# Altium schematic symbol library SamacSys.SchLib: 10 symbols
Pins are listed as number, name and electrical type; pins without a type are passive.

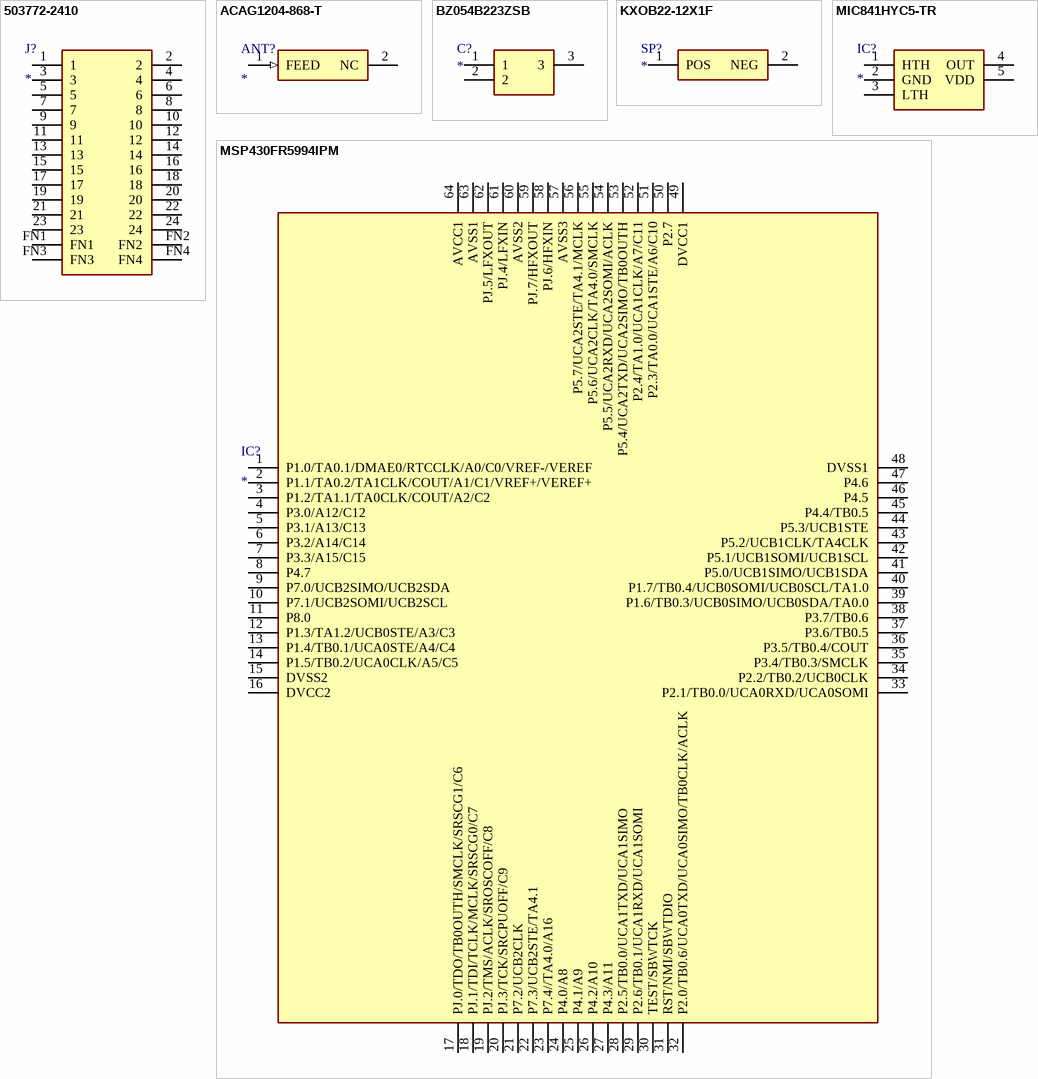
[diagram p0: symbols 503772-2410 to MSP430FR5994IPM]

## 503772-2410
designator J?
Connector; Manufacturer_Name: Molex; Manufacturer_Part_Number: 503772-2410; Datasheet Link: https://componentsearchengine.com/Datasheets/1/503772-2410.pdf; Height: 0.76mm; Mouser Part Number: 538-503772-2410; Mouser Price/Stock: https://www.mouser.com/Search/Refine.aspx?Keyword=538-503772-2410
footprint 5037722410
pins: 1, 2, 3, 4, 5, 6, 7, 8, 9, 10, 11, 12, 13, 14, 15, 16, 17, 18, 19, 20, 21, 22, 23, 24, FN1, FN2, FN3, FN4

## ACAG1204-868-T
designator ANT?
Antenna; Manufacturer_Name: ABRACON; Manufacturer_Part_Number: ACAG1204-868-T; Datasheet Link: https://componentsearchengine.com/Datasheets/1/ACAG1204-868-T.pdf; Height: 1.7mm; Mouser Part Number: 815-G1204-868-T; Mouser Price/Stock: https://www.mouser.com/Search/Refine.aspx?Keyword=815-G1204-868-T
footprint ANTC12040X170N
pins: 1 FEED (in), 2 NC

## BZ054B223ZSB
designator C?
Capacitor; Manufacturer_Name: AVX; Manufacturer_Part_Number: BZ054B223ZSB; Datasheet Link: http://datasheets.avx.com/BestCap.pdf; Height: 6mm; Mouser Part Number: 581-BZ054B223ZSB; Mouser Price/Stock: https://www.mouser.com/Search/Refine.aspx?Keyword=581-BZ054B223ZSB
footprint BZ054B223ZSB
pins: 1, 2, 3

## KXOB22-12X1F
designator SP?
Monocrystalline Solar Cell 22% 2-Pin SMD; Manufacturer_Name: IXYS SEMICONDUCTOR; Manufacturer_Part_Number: KXOB22-12X1F; Datasheet Link: http://ixapps.ixys.com/DataSheet/KXOB22-12X1F_Nov16.pdf; Height: 6.1mm
footprint KXOB22-12X1F
pins: 1 POS (power), 2 NEG (power)

## MIC841HYC5-TR
designator IC?
Integrated Circuit; Manufacturer_Name: Microchip; Manufacturer_Part_Number: MIC841HYC5-TR; Datasheet Link: http://ww1.microchip.com/downloads/en/devicedoc/20005758a.pdf; Height: 1.1mm; Mouser Part Number: 998-MIC841HYC5TR; RS Part Number: 1654292; RS Price/Stock: http://uk.rs-online.com/web/p/products/1654292
footprint SOT65P210X110-5N
pins: 1 HTH, 2 GND, 3 LTH, 4 OUT, 5 VDD

## MSP430FR5994IPM
designator IC?
Integrated Circuit; Manufacturer_Name: Texas Instruments; Manufacturer_Part_Number: MSP430FR5994IPM; Datasheet Link: http://www.ti.com/lit/gpn/msp430fr5994; Height: 1.6mm; Mouser Part Number: 595-MSP430FR5994IPM; Mouser Price/Stock: https://www.mouser.com/Search/Refine.aspx?Keyword=595-MSP430FR5994IPM
footprint QFP50P1200X1200X160-64N
pins: 1 P1.0/TA0.1/DMAE0/RTCCLK/A0/C0/VREF-/VEREF, 2 P1.1/TA0.2/TA1CLK/COUT/A1/C1/VREF+/VEREF+, 3 P1.2/TA1.1/TA0CLK/COUT/A2/C2, 4 P3.0/A12/C12, 5 P3.1/A13/C13, 6 P3.2/A14/C14, 7 P3.3/A15/C15, 8 P4.7, 9 P7.0/UCB2SIMO/UCB2SDA, 10 P7.1/UCB2SOMI/UCB2SCL, 11 P8.0, 12 P1.3/TA1.2/UCB0STE/A3/C3, 13 P1.4/TB0.1/UCA0STE/A4/C4, 14 P1.5/TB0.2/UCA0CLK/A5/C5, 15 DVSS2, 16 DVCC2, 17 PJ.0/TDO/TB0OUTH/SMCLK/SRSCG1/C6, 18 PJ.1/TDI/TCLK/MCLK/SRSCG0/C7, 19 PJ.2/TMS/ACLK/SROSCOFF/C8, 20 PJ.3/TCK/SRCPUOFF/C9, 21 P7.2/UCB2CLK, 22 P7.3/UCB2STE/TA4.1, 23 P7.4//TA4.0/A16, 24 P4.0/A8, 25 P4.1/A9, 26 P4.2/A10, 27 P4.3/A11, 28 P2.5/TB0.0/UCA1TXD/UCA1SIMO, 29 P2.6/TB0.1/UCA1RXD/UCA1SOMI, 30 TEST/SBWTCK, 31 RST/NMI/SBWTDIO, 32 P2.0/TB0.6/UCA0TXD/UCA0SIMO/TB0CLK/ACLK, 33 P2.1/TB0.0/UCA0RXD/UCA0SOMI, 34 P2.2/TB0.2/UCB0CLK, 35 P3.4/TB0.3/SMCLK, 36 P3.5/TB0.4/COUT, 37 P3.6/TB0.5, 38 P3.7/TB0.6, 39 P1.6/TB0.3/UCB0SIMO/UCB0SDA/TA0.0, 40 P1.7/TB0.4/UCB0SOMI/UCB0SCL/TA1.0, 41 P5.0/UCB1SIMO/UCB1SDA, 42 P5.1/UCB1SOMI/UCB1SCL, 43 P5.2/UCB1CLK/TA4CLK, 44 P5.3/UCB1STE, 45 P4.4/TB0.5, 46 P4.5, 47 P4.6, 48 DVSS1, 49 DVCC1, 50 P2.7, 51 P2.3/TA0.0/UCA1STE/A6/C10, 52 P2.4/TA1.0/UCA1CLK/A7/C11, 53 P5.4/UCA2TXD/UCA2SIMO/TB0OUTH, 54 P5.5/UCA2RXD/UCA2SOMI/ACLK, 55 P5.6/UCA2CLK/TA4.0/SMCLK, 56 P5.7/UCA2STE/TA4.1/MCLK, 57 AVSS3, 58 PJ.6/HFXIN, 59 PJ.7/HFXOUT, 60 AVSS2, 61 PJ.4/LFXIN, 62 PJ.5/LFXOUT, 63 AVSS1, 64 AVCC1

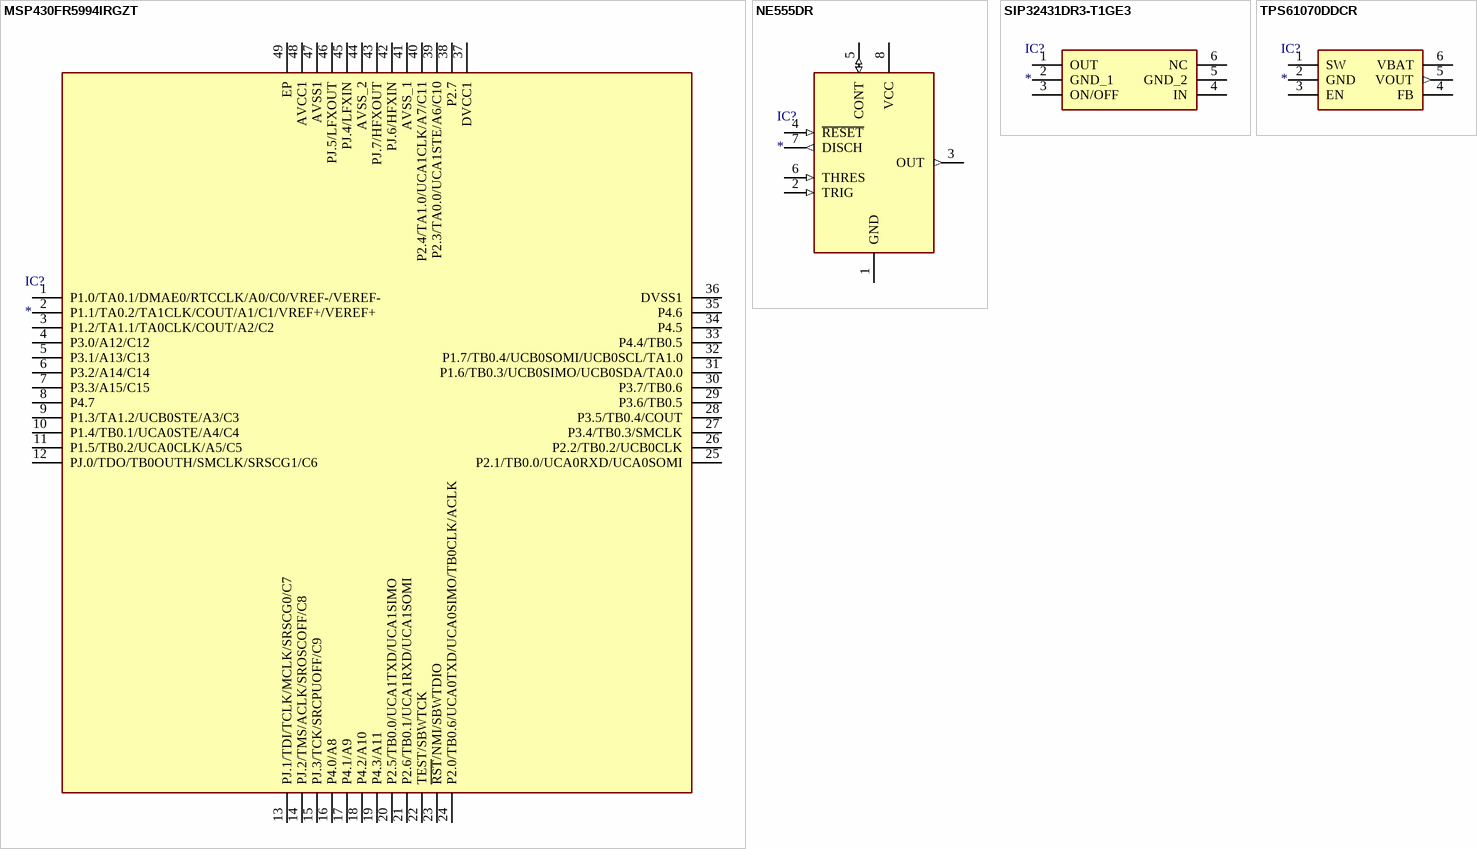
[diagram p1: symbols MSP430FR5994IRGZT to TPS61070DDCR]

## MSP430FR5994IRGZT
designator IC?
Integrated Circuit; Manufacturer_Name: Texas Instruments; Manufacturer_Part_Number: MSP430FR5994IRGZT; Datasheet Link: http://www.ti.com/lit/ds/symlink/msp430fr5994.pdf; Height: 1mm; Mouser Part Number: 595-SP430FR5994IRGZT; Mouser Price/Stock: https://www.mouser.com/Search/Refine.aspx?Keyword=595-SP430FR5994IRGZT
footprint QFN50P700X700X100-49N-D
pins: 1 P1.0/TA0.1/DMAE0/RTCCLK/A0/C0/VREF-/VEREF-, 2 P1.1/TA0.2/TA1CLK/COUT/A1/C1/VREF+/VEREF+, 3 P1.2/TA1.1/TA0CLK/COUT/A2/C2, 4 P3.0/A12/C12, 5 P3.1/A13/C13, 6 P3.2/A14/C14, 7 P3.3/A15/C15, 8 P4.7, 9 P1.3/TA1.2/UCB0STE/A3/C3, 10 P1.4/TB0.1/UCA0STE/A4/C4, 11 P1.5/TB0.2/UCA0CLK/A5/C5, 12 PJ.0/TDO/TB0OUTH/SMCLK/SRSCG1/C6, 13 PJ.1/TDI/TCLK/MCLK/SRSCG0/C7, 14 PJ.2/TMS/ACLK/SROSCOFF/C8, 15 PJ.3/TCK/SRCPUOFF/C9, 16 P4.0/A8, 17 P4.1/A9, 18 P4.2/A10, 19 P4.3/A11, 20 P2.5/TB0.0/UCA1TXD/UCA1SIMO, 21 P2.6/TB0.1/UCA1RXD/UCA1SOMI, 22 TEST/SBWTCK, 23 ~{RST}/NMI/SBWTDIO, 24 P2.0/TB0.6/UCA0TXD/UCA0SIMO/TB0CLK/ACLK, 25 P2.1/TB0.0/UCA0RXD/UCA0SOMI, 26 P2.2/TB0.2/UCB0CLK, 27 P3.4/TB0.3/SMCLK, 28 P3.5/TB0.4/COUT, 29 P3.6/TB0.5, 30 P3.7/TB0.6, 31 P1.6/TB0.3/UCB0SIMO/UCB0SDA/TA0.0, 32 P1.7/TB0.4/UCB0SOMI/UCB0SCL/TA1.0, 33 P4.4/TB0.5, 34 P4.5, 35 P4.6, 36 DVSS1, 37 DVCC1, 38 P2.7, 39 P2.3/TA0.0/UCA1STE/A6/C10, 40 P2.4/TA1.0/UCA1CLK/A7/C11, 41 AVSS_1, 42 PJ.6/HFXIN, 43 PJ.7/HFXOUT, 44 AVSS_2, 45 PJ.4/LFXIN, 46 PJ.5/LFXOUT, 47 AVSS1, 48 AVCC1, 49 EP

## NE555DR
designator IC?
Integrated Circuit; Manufacturer_Name: Texas Instruments; Manufacturer_Part_Number: NE555DR; Datasheet Link: http://www.ti.com/lit/ds/symlink/ne555.pdf; Height: 1.75mm; Mouser Part Number: 595-NE555DR; Mouser Price/Stock: https://www.mouser.com/Search/Refine.aspx?Keyword=595-NE555DR; RS Part Number: 1218414; RS Price/Stock: http://uk.rs-online.com/web/p/products/1218414
footprint SOIC127P600X175-8N
pins: 1 GND (power), 2 TRIG (in), 3 OUT (out), 4 ~{RESET} (in), 5 CONT (io), 6 THRES (in), 7 DISCH (out), 8 VCC (power)

## SIP32431DR3-T1GE3
designator IC?
Integrated Circuit; Manufacturer_Name: Vishay; Manufacturer_Part_Number: SIP32431DR3-T1GE3; Datasheet Link: https://componentsearchengine.com/Datasheets/1/SIP32431DR3-T1GE3.pdf; Height: 1.1mm; Mouser Part Number: 781-SIP32431DR3-GE3; Mouser Price/Stock: https://www.mouser.com/Search/Refine.aspx?Keyword=781-SIP32431DR3-GE3
footprint SOT65P210X110-6N
pins: 1 OUT, 2 GND_1, 3 ON/OFF, 4 IN, 5 GND_2, 6 NC

## TPS61070DDCR
designator IC?
Integrated Circuit; Manufacturer_Name: Texas Instruments; Manufacturer_Part_Number: TPS61070DDCR; Datasheet Link: http://www.ti.com/lit/ds/symlink/tps61070.pdf; Height: 1.1mm; Mouser Part Number: 595-TPS61070DDCR; Mouser Price/Stock: https://www.mouser.com/Search/Refine.aspx?Keyword=595-TPS61070DDCR
footprint SOT95P280X110-6N
pins: 1 SW, 2 GND (power), 3 EN, 4 FB, 5 VOUT (out), 6 VBAT